# EAGLE library part B8PS-VH (library con-jst-vh)
JST VH Series header 3.96mm pitch disconnectable crimp style connectors, horizontal (side entry type), 8 pins
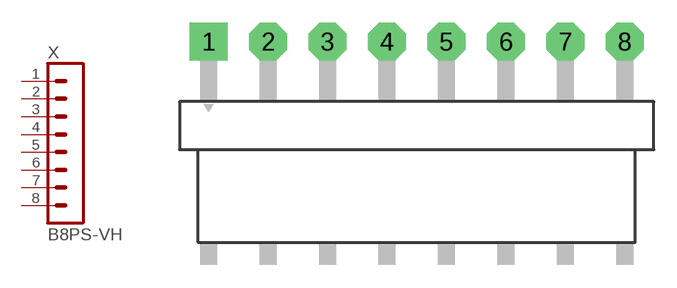
[diagram p8: symbol with the pads of B8PS-VH; footprint B8PS-VH]

Designator prefix X

## B8PS-VH  [B8PS-VH]
1  1  pas
2  2  pas
3  3  pas
4  4  pas
5  5  pas
6  6  pas
7  7  pas
8  8  pas

## Footprint B8PS-VH (pad centres in mm)
JST VH Series header 3.96mm pitch disconnectable crimp style connectors, horizontal (side entry type), 8 pins
drill 1.7 pad 2.54 square: 1 -13.86,0
drill 1.7 pad 2.54 octagon: 2 -9.9,0; 3 -5.94,0; 4 -1.98,0; 5 1.98,0; 6 5.94,0; 7 9.9,0; 8 13.86,0